# Altium schematic symbol library SolarV1.SCHLIB: 65 symbols
Pins are listed as number, name and electrical type; pins without a type are passive.

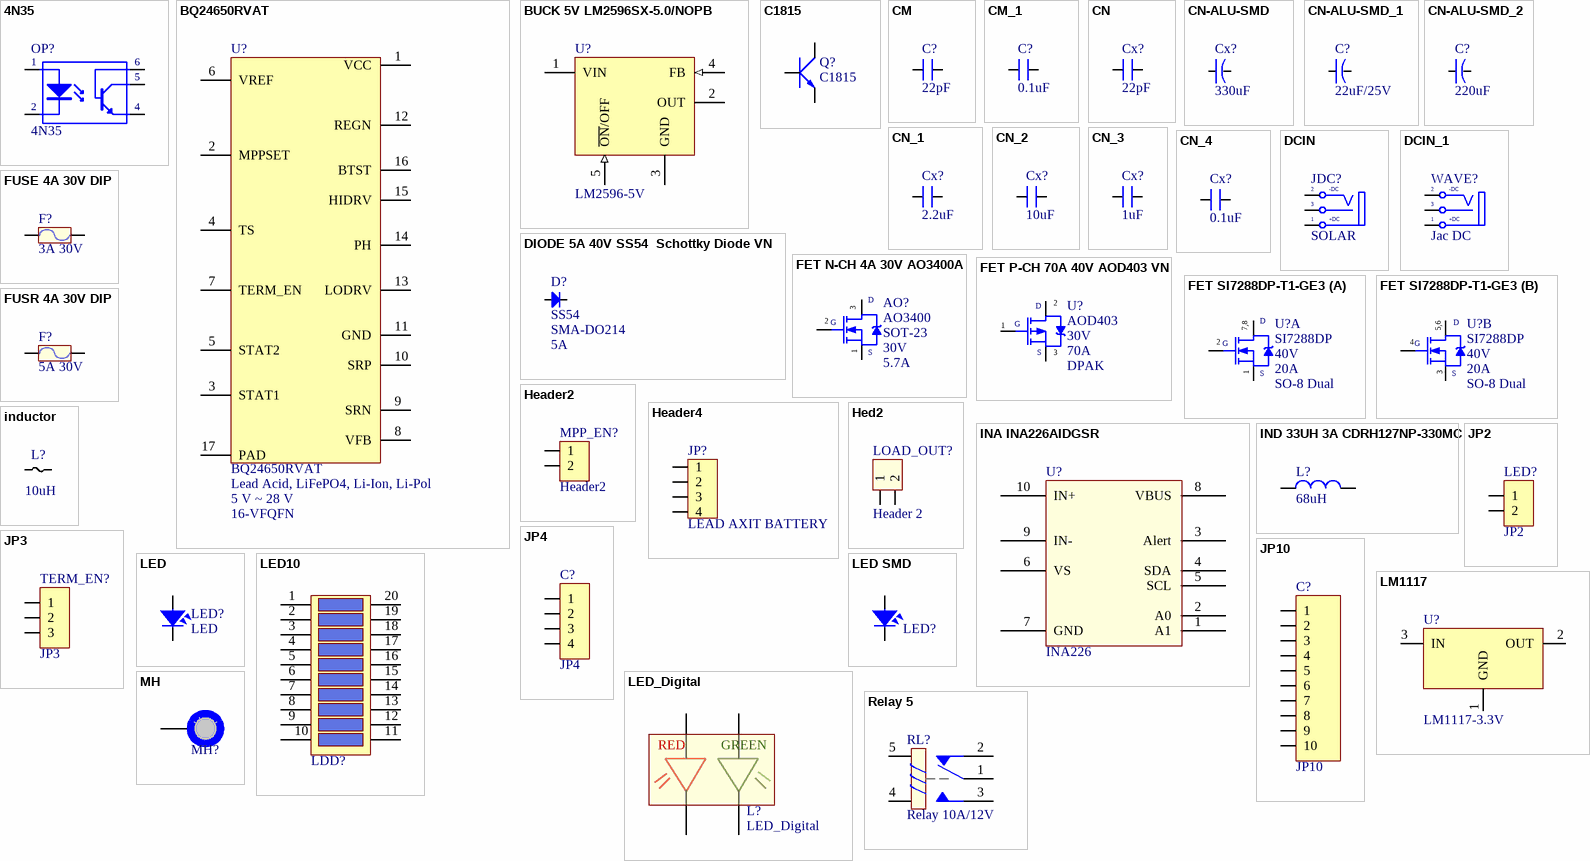
[diagram p0: symbols 4N35 to Relay 5]

## 4N35
designator OP?
Opto; Value: 4N35
footprint DIP6
footprint SO6
pins: 1 A "Anode", 2 K "Cathode", 4 E "Emitter", 5 C "Collector", 6 C "Collector"

## BQ24650RVAT
designator U?  Battery Chemistry: Lead Acid, LiFePO4, Li-Ion, Li-Pol  Voltage - Supply: 5 V ~ 28 V  Package / Case: 16-VFQFN
TEXAS INSTRUMENTS         BQ24650RVAT            IC, BATT CHARGER, LI-ION, 10A, VQFN-16; Product Training Modules: Power Management for Energy Harvesting; Featured Product: bq24650 Battery Charge Controller for Solar Power; Reference Design Library: BQ24650EVM-639: 5 ~ 28V, 8 A Solar Charger; Function: Charge Management, Solar; Dynamic Catalog: Charge Management, Specialized; For Use With: 296-28320-ND / - EVAL MODULE FOR BQ24650; Other Names: 296-27699-6; Supplier 1: Mouser; Manufacturer: Texas Instruments; Manufacturer Part Number: BQ24650RVAT; Stock 1: 1648; Pricing 1: 1=5.36, 10=4.82, 50=4.82, 100=3.94, 1000=2.83, 10000=2.69 (USD); Standard Package: 1; Category: Integrated Circuits (ICs); Family: PMIC - Battery Management; Series: -; Operating Temperature: -40°C ~ 85°C; Mounting Type: Surface Mount; Supplier Device Package: 16-VQFN Exposed Pad (3.5x3.5); Packaging: Digi-Reel®; ComponentLink1URL: http://www.ti.com/general/docs/lit/getliterature.tsp?genericPartNumber=BQ24650&amp;&amp;fileType=pdf&src-supplier=Avnet; ComponentLink1Description: http://www.ti.com/general/docs/lit/getliterature.tsp?genericPartNumber=BQ24650&amp;&amp;fileType=pdf&src-supplier=Avnet; ComponentLink2URL: http://www.ti.com/general/docs/lit/getliterature.tsp?genericPartNumber=BQ24650&amp;&amp;fileType=pdf&src-supplier=Verical; ComponentLink2Description: http://www.ti.com/general/docs/lit/getliterature.tsp?genericPartNumber=BQ24650&amp;&amp;fileType=pdf&src-supplier=Verical; ComponentLink3URL: http://www.ti.com/general/docs/lit/getliterature.tsp?genericPartNumber=BQ24650&amp;&amp;fileType=pdf&src-supplier=Farnell; ComponentLink3Description: http://www.ti.com/general/docs/lit/getliterature.tsp?genericPartNumber=BQ24650&amp;&amp;fileType=pdf&src-supplier=Farnell; ComponentLink4URL: http://www.ti.com/general/docs/lit/getliterature.tsp?genericPartNumber=BQ24650&amp;&amp;fileType=pdf&src-supplier=Mouser; ComponentLink4Description: http://www.ti.com/general/docs/lit/getliterature.tsp?genericPartNumber=BQ24650&amp;&amp;fileType=pdf&src-supplier=Mouser; ComponentLink5URL: http://www.ti.com/general/docs/lit/getliterature.tsp?genericPartNumber=BQ24650&&fileType=pdf&src-supplier=Element14; ComponentLink5Description: http://www.ti.com/general/docs/lit/getliterature.tsp?genericPartNumber=BQ24650&&fileType=pdf&src-supplier=Element14; ComponentLink6URL: http://www.farnell.com/datasheets/1795899.pdf?src-supplier=Element14; ComponentLink6Description: http://www.farnell.com/datasheets/1795899.pdf?src-supplier=Element14; ComponentLink7URL: http://www.ti.com/lit/ds/symlink/bq24650.pdf?src-supplier=Digi-Key; ComponentLink7Description: http://www.ti.com/lit/ds/symlink/bq24650.pdf?src-supplier=Digi-Key; ComponentLink8URL: http://www.ti.com/general/docs/lit/getliterature.tsp?genericPartNumber=BQ24650&amp;&amp;fileType=pdf&src-supplier=Avnet+Europe; ComponentLink8Description: http://www.ti.com/general/docs/lit/getliterature.tsp?genericPartNumber=BQ24650&amp;&amp;fileType=pdf&src-supplier=Avnet+Europe; ComponentLink9URL: http://www.produktinfo.conrad.com/datenblaetter/1000000-1099999/001013519-da-01-en-IC_SYNC_SW_MODE_BQ24650RVAT_VQFN_16_TID.pdf?src-supplier=Conrad; ComponentLink9Description: http://www.produktinfo.conrad.com/datenblaetter/1000000-1099999/001013519-da-01-en-IC_SYNC_SW_MODE_BQ24650RVAT_VQFN_16_TID.pdf?src-supplier=Conrad; Supplier Part Number 1: 595-BQ24650RVAT
footprint VFQFN-16-EP
pins: 1 VCC, 2 MPPSET, 3 STAT1, 4 TS, 5 STAT2, 6 VREF, 7 TERM_EN, 8 VFB, 9 SRN, 10 SRP, 11 GND, 12 REGN, 13 LODRV, 14 PH, 15 HIDRV, 16 BTST, 17 PAD

## BUCK 5V LM2596SX-5.0/NOPB
designator U?, comment LM2596-5V
IC REG BUCK 5V 3A TO263-5; Manufacturer: Texas Instruments; Manufacturer Part Number: LM2596SX-5.0/NOPB; Categories: Integrated Circuits (ICs); Function: Step-Down; Output Configuration: Positive; Output Type: Fixed; Number of Outputs: 1; Voltage - Input (Min): 4.5V; Voltage - Input (Max): 40V; Frequency - Switching: 150kHz; Synchronous Rectifier: No; Supplier 1: Newark; Stock 1: 1924; Pricing 1: 1=4.77, 10=4.28, 25=4.02, 50=3.77, 100=3.51, 250=3.29 (USD); Series: SIMPLE SWITCHER®; Packaging: Digi-Reel®; Part Status: Active; Topology: Buck; Voltage - Output (Min/Fixed): 5V; Voltage - Output (Max): -; Current - Output: 3A; Operating Temperature: -40°C ~ 125°C (TJ); Mounting Type: Surface Mount; Package / Case: TO-263-6, D²Pak (5 Leads + Tab), TO-263BA; Supplier Device Package: DDPAK/TO-263-5; Base Part Number: LM2596; Supplier Part Number 1: 28AH3161
footprint TO263
pins: 1 VIN (power), 2 OUT (power), 3 GND (power), 4 FB (in), 5 ~{ON}/OFF (in)

## C1815
designator Q?
NPN 600mW, ECB; Value: C1815
footprint QTO-92 (TO-92)
footprint SOT23B (SOT 23B)
pins: 1 E, 2 C, 3 B

## CM
designator C?, comment 22pF
Cap Ceramic 22pF 50V C0G 10% Pad SMD 0805 125°C T/R; Value: 103
footprint SM-0805 (Compoment SMD 80x50mil)
footprint SM-1206 (Compoment SMD 120x60mil)
pins: 1, 2

## CM_1
designator C?, comment 0.1uF
Cap SMD; Value: 103
footprint SM-0805 (Compoment SMD 80x50mil)
footprint SM-1206 (Compoment SMD 120x60mil)
pins: 1, 2

## CN
designator Cx?, comment 22pF
Value: 33pF
footprint CN1.5
footprint CN1
footprint CN2.5 (Tu pin to pin 250mil)
footprint CN3 (Cap np W 0.3)
footprint CN-SMD-0603
footprint CN-SMD-0805
footprint CN-SMD-0402
footprint CN-SMD-1206
footprint CN-SMD-2520 (TOKO INDUCTOR DFE252012 SERIES)
footprint CN-SMD-3225 (Chip Capacitor, Body 3.2x2.5mm, IPC Medium Density)
footprint CN2-T
footprint CN2-G
footprint CN0.8
footprint CN1-TA
footprint CN2-B
footprint CN2-LT
footprint CN2-O
footprint CN2-R
footprint CN2.5-BR (Tu pin to pin 250mil)
footprint CN2.5-R (Tu pin to pin 250mil)
footprint CN2.5-RV (Tu pin to pin 250mil)
footprint CN3.5 (Cap np W 0.3)
footprint CN4
footprint CN7 (Cap np W 0.3)
footprint CN3-B (Cap np W 0.3)
footprint CN7-B (Cap np W 0.3)
footprint CN7-N (Cap np W 0.3)
footprint CN7-Y (Cap np W 0.3)
footprint CN15 (Cap np W 0.3)
pins: 1, 2

## CN-ALU-SMD
designator Cx?, comment 330uF
Polarized Capacitor (Axial); Published: 8-Jun-2000; LatestRevisionDate: 17-Jul-2002; LatestRevisionNote: Re-released for DXP Platform.; PackageReference: POLAR0.8; Publisher: Altium Limited
footprint CAP-ALU-SMD-4.5x5x1.4
footprint CAP-ALU-SMD-5x5.5x1.4
footprint CAP-ALU-SMD-5.5x5.5
footprint CAP-ALU-SMD-6.3x7.7x2.2
footprint CAP-ALU-SMD-C
footprint CAP-ALU-SMD-D
footprint CAP-ALU-SMD-F
footprint CAP-ALU-SMD-G
footprint CAP-ALU-SMD-H
footprint CAP-ALU-SMD-J
footprint CAP-ALU-SMD-K
footprint CAP SMD ALU SIZE F (8.3 X 8.3 X 10.2mm)
pins: 1, 2
1 alternate drawing of the same symbol

## CN-ALU-SMD_1
designator C?, comment 22uF/25V
Polarized Capacitor (Axial); Published: 8-Jun-2000; LatestRevisionDate: 17-Jul-2002; LatestRevisionNote: Re-released for DXP Platform.; PackageReference: POLAR0.8; Publisher: Altium Limited
footprint CAP-ALU-SMD-4.5x5x1.4
footprint CAP-ALU-SMD-5x5.5x1.4
footprint CAP-ALU-SMD-5.5x5.5
footprint CAP-ALU-SMD-6.3x7.7x2.2
footprint CAP-ALU-SMD-C
footprint CAP-ALU-SMD-D
footprint CAP-ALU-SMD-F
footprint CAP-ALU-SMD-G
footprint CAP-ALU-SMD-H
footprint CAP-ALU-SMD-J
footprint CAP-ALU-SMD-K
pins: 1, 2
1 alternate drawing of the same symbol

## CN-ALU-SMD_2
designator C?, comment 220uF
Polarized Capacitor (Axial); Published: 8-Jun-2000; LatestRevisionDate: 17-Jul-2002; LatestRevisionNote: Re-released for DXP Platform.; PackageReference: POLAR0.8; Publisher: Altium Limited
footprint CAP-ALU-SMD-4.5x5x1.4
footprint CAP-ALU-SMD-5x5.5x1.4
footprint CAP-ALU-SMD-5.5x5.5
footprint CAP-ALU-SMD-6.3x7.7x2.2
footprint CAP-ALU-SMD-C
footprint CAP-ALU-SMD-D
footprint CAP-ALU-SMD-F
footprint CAP-ALU-SMD-G
footprint CAP-ALU-SMD-H
footprint CAP-ALU-SMD-J
footprint CAP-ALU-SMD-K
footprint CAP SMD ALU SIZE F (8.3 X 8.3 X 10.2mm)
pins: 1, 2
1 alternate drawing of the same symbol

## CN_1
designator Cx?, comment 2.2uF
Value: 33pF
footprint CN1.5
footprint CN1
footprint CN2.5 (Tu pin to pin 250mil)
footprint CN3 (Cap np W 0.3)
footprint CN-SMD-0603
footprint CN-SMD-0805
footprint CN-SMD-0402
footprint CN-SMD-1206
footprint CN-SMD-2520 (TOKO INDUCTOR DFE252012 SERIES)
footprint CN-SMD-3225 (Chip Capacitor, Body 3.2x2.5mm, IPC Medium Density)
footprint CN2-T
footprint CN2-G
footprint CN0.8
footprint CN1-TA
footprint CN2-B
footprint CN2-LT
footprint CN2-O
footprint CN2-R
footprint CN2.5-BR (Tu pin to pin 250mil)
footprint CN2.5-R (Tu pin to pin 250mil)
footprint CN2.5-RV (Tu pin to pin 250mil)
footprint CN3.5 (Cap np W 0.3)
footprint CN4
footprint CN7 (Cap np W 0.3)
footprint CN3-B (Cap np W 0.3)
footprint CN7-B (Cap np W 0.3)
footprint CN7-N (Cap np W 0.3)
footprint CN7-Y (Cap np W 0.3)
footprint CN15 (Cap np W 0.3)
pins: 1, 2

## CN_2
designator Cx?, comment 10uF
Value: 33pF
footprint CN1.5
footprint CN1
footprint CN2.5 (Tu pin to pin 250mil)
footprint CN3 (Cap np W 0.3)
footprint CN-SMD-0603
footprint CN-SMD-0805
footprint CN-SMD-0402
footprint CN-SMD-1206
footprint CN-SMD-2520 (TOKO INDUCTOR DFE252012 SERIES)
footprint CN-SMD-3225 (Chip Capacitor, Body 3.2x2.5mm, IPC Medium Density)
footprint CN2-T
footprint CN2-G
footprint CN0.8
footprint CN1-TA
footprint CN2-B
footprint CN2-LT
footprint CN2-O
footprint CN2-R
footprint CN2.5-BR (Tu pin to pin 250mil)
footprint CN2.5-R (Tu pin to pin 250mil)
footprint CN2.5-RV (Tu pin to pin 250mil)
footprint CN3.5 (Cap np W 0.3)
footprint CN4
footprint CN7 (Cap np W 0.3)
footprint CN3-B (Cap np W 0.3)
footprint CN7-B (Cap np W 0.3)
footprint CN7-N (Cap np W 0.3)
footprint CN7-Y (Cap np W 0.3)
footprint CN15 (Cap np W 0.3)
pins: 1, 2

## CN_3
designator Cx?, comment 1uF
Value: 33pF
footprint CN1.5
footprint CN1
footprint CN2.5 (Tu pin to pin 250mil)
footprint CN3 (Cap np W 0.3)
footprint CN-SMD-0603
footprint CN-SMD-0805
footprint CN-SMD-0402
footprint CN-SMD-1206
footprint CN-SMD-2520 (TOKO INDUCTOR DFE252012 SERIES)
footprint CN-SMD-3225 (Chip Capacitor, Body 3.2x2.5mm, IPC Medium Density)
footprint CN2-T
footprint CN2-G
footprint CN0.8
footprint CN1-TA
footprint CN2-B
footprint CN2-LT
footprint CN2-O
footprint CN2-R
footprint CN2.5-BR (Tu pin to pin 250mil)
footprint CN2.5-R (Tu pin to pin 250mil)
footprint CN2.5-RV (Tu pin to pin 250mil)
footprint CN3.5 (Cap np W 0.3)
footprint CN4
footprint CN7 (Cap np W 0.3)
footprint CN3-B (Cap np W 0.3)
footprint CN7-B (Cap np W 0.3)
footprint CN7-N (Cap np W 0.3)
footprint CN7-Y (Cap np W 0.3)
footprint CN15 (Cap np W 0.3)
pins: 1, 2

## CN_4
designator Cx?, comment 0.1uF
Value: 33pF
footprint CN1.5
footprint CN1
footprint CN2.5 (Tu pin to pin 250mil)
footprint CN3 (Cap np W 0.3)
footprint CN-SMD-0603
footprint CN-SMD-0805
footprint CN-SMD-0402
footprint CN-SMD-1206
footprint CN-SMD-2520 (TOKO INDUCTOR DFE252012 SERIES)
footprint CN-SMD-3225 (Chip Capacitor, Body 3.2x2.5mm, IPC Medium Density)
footprint CN2-T
footprint CN2-G
footprint CN0.8
footprint CN1-TA
footprint CN2-B
footprint CN2-LT
footprint CN2-O
footprint CN2-R
footprint CN2.5-BR (Tu pin to pin 250mil)
footprint CN2.5-R (Tu pin to pin 250mil)
footprint CN2.5-RV (Tu pin to pin 250mil)
footprint CN3.5 (Cap np W 0.3)
footprint CN4
footprint CN7 (Cap np W 0.3)
footprint CN3-B (Cap np W 0.3)
footprint CN7-B (Cap np W 0.3)
footprint CN7-N (Cap np W 0.3)
footprint CN7-Y (Cap np W 0.3)
footprint CN15 (Cap np W 0.3)
pins: 1, 2

## DCIN
designator JDC?, comment SOLAR
Jac DC input; Value: Jac DC
footprint DC0 (Jac DC input)
footprint DC1 (WR-DC_DC Power Jack_Right Angled_THT Center Pin ?0.65_Plug ID ?0.75_Plug OD ?2.35_with Peg)
footprint DC2 (WR-DC_DC Power Jack_Vertical_THT WR-DC_DC Power Jack_Vertical_THT)
footprint DC3 (WR-DC_DC Power Jack_Vertical_THT Center Pin ?2.5_Plug ID ?2.55_Plug OD ?5.5)
footprint DC4 (WR-DC_DC Power Jack_Right Angled_THT Center Pin ?1.0_Plug ID ?1.05_Plug OD ?3.5_with Peg)
footprint DC5 (WR-DC_DC Power Jack_Right Angled_THT Center Pin ?1.3_Plug ID ?1.35_Plug OD ?3.5_with Peg)
pins: 1 T "Tip", 2 TN "Tip Normal (Break Contact)", 3 S (power) "Sleeve (Ground)"
text: -DC; +DC

## DCIN_1
designator WAVE?, comment Jac DC
Jac DC input; Value: Jac DC
footprint DC0 (Jac DC input)
footprint DC1 (WR-DC_DC Power Jack_Right Angled_THT Center Pin ?0.65_Plug ID ?0.75_Plug OD ?2.35_with Peg)
footprint DC2 (WR-DC_DC Power Jack_Vertical_THT WR-DC_DC Power Jack_Vertical_THT)
footprint DC3 (WR-DC_DC Power Jack_Vertical_THT Center Pin ?2.5_Plug ID ?2.55_Plug OD ?5.5)
footprint DC4 (WR-DC_DC Power Jack_Right Angled_THT Center Pin ?1.0_Plug ID ?1.05_Plug OD ?3.5_with Peg)
footprint DC5 (WR-DC_DC Power Jack_Right Angled_THT Center Pin ?1.3_Plug ID ?1.35_Plug OD ?3.5_with Peg)
pins: 1 T "Tip", 2 TN "Tip Normal (Break Contact)", 3 S (power) "Sleeve (Ground)"
text: -DC; +DC

## DIODE 5A 40V SS54  Schottky Diode VN
designator D?, comment SS54  Package: SMA-DO214  Current: 5A
SS54 SMA/DO-124AC 5A 40V Schottky Barrier (1N5824) VN
footprint SMA (DO-214AC) (Molded Diode, 2-Leads, Body 5.3x2.8mm, IPC Medium Density)
pins: 1 A, 2 K

## FET N-CH 4A 30V AO3400A
designator AO?, comment AO3400  Package Type: SOT-23  Drain-Source On-Volt: 30V  Continuous Drain Current: 5.7A
MOSFET N-CH 30V 5.7A SOT23; Manufacturer: Alpha & Omega Semiconductor; Manufacturer Part Number: AO3400A; Number of  Elements: 1; Polarity: N; Channel Mode: Enhancement; Drain-Source On-Res: 0.0265Ohm; Gate-Source Voltage (Max): ±12V; Power Dissipation: 1.4W; Supplier 1: LCSC; Stock 1: 497680; Pricing 1: 5=0.1102, 50=0.0812, 150=0.0759, 500=0.0706, 2500=0.0682, 5000=0.0671, 5=0.0989, 50=0.0729, 150=0.0681, 500=0.0633, 2500=0.0612, 5000=0.0602, 5=0.5285, 50=0.3893, 150=0.3638, 500=0.3384, 2500=0.3271, 5000=0.3215, 5=0.5065, 50=0.3731, 150=0.3487, 500=0.3244, 2500=0.3135, 5000=0.3081, 5=0.0678, 50=0.05, 150=0.0467, 500=0.0434, 2500=0.042, 5000=0.0413, 5=0.0593, 50=0.0437, 150=0.0408, 500=0.038, 2500=0.0367, 5000=0.0361, 5=0.5868, 50=0.4323, 150=0.404, 500=0.3758, 2500=0.3632, 5000=0.357, 5=8.1047, 50=5.9701, 150=5.5801, 500=5.19, 2500=5.0167, 5000=4.93, 5=0.3132, 50=0.2307, 150=0.2156, 500=0.2005, 2500=0.1938, 5000=0.1905, 5=4.8106, 50=3.5436, 150=3.3121, 500=3.0806, 2500=2.9777, 5000=2.9262, 5=0.7344, 50=0.541, 150=0.5056, 500=0.4703, 2500=0.4546, 5000=0.4467, 5=0.1024, 50=0.0754, 150=0.0705, 500=0.0656, 2500=0.0634, 5000=0.0623, 5=0.0748, 50=0.0551, 150=0.0515, 500=0.0479, 2500=0.0463, 5000=0.0455 (AUD); Type: Power MOSFET; Operating Temp Range: -55C to 150C; Operating Temperature Classification: Military; Mounting: Surface Mount; Pin Count: 3; ComponentLink1URL: http://aosmd.com/res/packaging_information/SOT-23-3L.pdf?src-supplier=Digi-Key; ComponentLink1Description: http://aosmd.com/res/packaging_information/SOT-23-3L.pdf?src-supplier=Digi-Key; ComponentLink2URL: https://www.verical.com/server-webapp/html/getDatasheet?partID=64438&src-supplier=Verical; ComponentLink2Description: https://www.verical.com/server-webapp/html/getDatasheet?partID=64438&src-supplier=Verical; Supplier Part Number 1: C20917
footprint SOT23-231
pins: 1 S, 2 G, 3 D

## FET P-CH 70A 40V AOD403 VN
designator U?, comment AOD403  Drain-Source On-Volt: 30V  Continuous Drain Current: 70A  Package Type: DPAK
Trans MOSFET P-CH 30V 70A 3-Pin(2+Tab) DPAK VN; Manufacturer: Alpha & Omega Semiconductor; Number of  Elements: 1; Polarity: P; Channel Mode: Enhancement; Gate-Source Voltage (Max): ±25V; Power Dissipation: 90W; Supplier 1: Verical; Manufacturer Part Number: AOD403; Stock 1: 160042; Pricing 1: 2500=0.3969, 5000=0.378, 26=0.805 (USD); Type: Power MOSFET; Operating Temp Range: -55C to 175C; Operating Temperature Classification: Military; Mounting: Surface Mount; Pin Count: 2 +Tab; ComponentLink1URL: http://www.aosmd.com/res/packaging_information/TO252.pdf?src-supplier=Digi-Key; ComponentLink1Description: http://www.aosmd.com/res/packaging_information/TO252.pdf?src-supplier=Digi-Key; ComponentLink2URL: https://www.verical.com/server-webapp/html/getDatasheet?partID=313226&src-supplier=Verical; ComponentLink2Description: https://www.verical.com/server-webapp/html/getDatasheet?partID=313226&src-supplier=Verical; Supplier Part Number 1: AOD403
footprint TO-252 DPAK
pins: 1 G, 2 D, 3 S

## FET SI7288DP-T1-GE3
designator U?, comment SI7288DP  Drain to Source Voltage (Vdss): 40V  Current - Continuous Drain (Id) @ 25°C: 20A  Package / Case: SO-8 Dual
MOSFET 2N-CH 40V 20A PPAK SO-8; Manufacturer: Vishay Siliconix; Manufacturer Part Number: SI7288DP-T1-GE3; PCN Assembly/Origin: Multiple Fabracation Changes09/Jul/2014; FET Type: 2 N-Channel (Dual); FET Feature: Standard; Rds On (Max) @ Id, Vgs: 19 mOhm @ 10A, 10V; Vgs(th) (Max) @ Id: 2.8V @ 250µA; Gate Charge (Qg) @ Vgs: 15nC @ 10V; Input Capacitance (Ciss) @ Vds: 565pF @ 20V; Power - Max: 15.6W; Online Catalog: N-Channel Standard FETs; Other Names: SI7288DP-T1-GE3DKR; Supplier 1: Mouser; Stock 1: 27404; Pricing 1: 1=1.39, 10=1.17, 50=1.17, 100=0.96, 1000=0.679, 10000=0.563 (USD); Standard Package: 1; Category: Discrete Semiconductor Products; Family: FETs - Arrays; Series: TrenchFET®; Packaging: Digi-Reel®; Mounting Type: Surface Mount; Supplier Device Package: PowerPAK® SO-8 Dual; ComponentLink1URL: http://www.vishay.com/docs/65366/si7288dp.pdf?src-supplier=Digi-Key; ComponentLink1Description: http://www.vishay.com/docs/65366/si7288dp.pdf?src-supplier=Digi-Key; ComponentLink2URL: http://www.mouser.com/ds/2/427/si7288dp-244449.pdf?src-supplier=Mouser; ComponentLink2Description: http://www.mouser.com/ds/2/427/si7288dp-244449.pdf?src-supplier=Mouser; ComponentLink3URL: http://www.vishay.com/docs/65366/si7288dp.pdf?src-supplier=Avnet; ComponentLink3Description: http://www.vishay.com/docs/65366/si7288dp.pdf?src-supplier=Avnet; ComponentLink4URL: http://www.vishay.com/docs/65366/si7288dp.pdf?src-supplier=Avnet+Europe; ComponentLink4Description: http://www.vishay.com/docs/65366/si7288dp.pdf?src-supplier=Avnet+Europe; ComponentLink5URL: http://www.vishay.com/docs/65366/si7288dp.pdf?src-supplier=Future+Electronics; ComponentLink5Description: http://www.vishay.com/docs/65366/si7288dp.pdf?src-supplier=Future+Electronics; Supplier Part Number 1: 781-SI7288DP-T1-GE3
footprint SO-8 PowerPAK
part A pins: 1 S, 2 G, 7 D, 8 D
part B pins: 3 S, 4 G, 5 D, 6 D
part A text: 7,8
part B text: 5,6

## FUSE 4A 30V DIP
designator F?, comment 3A 30V
footprint CN2-G
pins: 1, 2

## FUSR 4A 30V DIP
designator F?, comment 5A 30V
footprint CN4
pins: 1, 2

## Header2
designator MPP_EN?
Header IDC, 2 x 1 Pin Vertical 2.54mm Pitch (Non-Boxed, Male); Manufacturer: W¨¹rth Elektronik eiSos GmbH; partNo: 613002143121; ComponentLink1 Description: Manufacturer; ComponentLink2 Description: Datasheet; NoPins: 02; Created Date: 29 March 2013; ComponentLink1URL: http://www.we-online.com; ComponentLink2URL: http://katalog.we-online.de/em/datasheet/6130xx143121.pdf; Created by: Karrer Zheng
footprint JP2-D1T (2 pins, 1 row, straight, gold plating)
pins: 1, 2

## Header4
designator JP?, comment LEAD AXIT BATTERY
Header IDC, 4 x 1 Pin Vertical 2.54mm Pitch (Non-Boxed, Male); Manufacturer: W¨¹rth Elektronik eiSos GmbH; partNo: 613002143121; ComponentLink1 Description: Manufacturer; ComponentLink2 Description: Datasheet; NoPins: 02; Created Date: 29 March 2013; ComponentLink1URL: http://www.we-online.com; ComponentLink2URL: http://katalog.we-online.de/em/datasheet/6130xx143121.pdf; Created by: Karrer Zheng
footprint DOMINO 4 - H
pins: 1, 2, 3, 4

## Hed2
designator LOAD_OUT?, comment Header 2
Header 2 (Green); Value: Header 2
footprint HED2 (Header 2, 2 pin, hight 300mil, Pin to Pin 200, Colour Green)
footprint HED2T (Header 2, 2 pin, hight 300mil, Pin to Pin 200, Colour Green)
footprint HED2B (Header 2, 2 pin, hight 300mil, Pin to Pin 150, Colour White)
pins: 1, 2

## INA INA226AIDGSR
designator U?, comment INA226
IC MONITOR PWR/CURR BIDIR 10MSOP
footprint INA226 (VSSOP, 10-Leads, Body 3.00x3.00mm, Pitch 0.50mm, IPC Medium Density)
pins: 1 A1, 2 A0, 3 Alert, 4 SDA, 5 SCL, 6 VS, 7 GND, 8 VBUS, 9 IN-, 10 IN+

## IND 33UH 3A CDRH127NP-330MC
designator L?, comment 68uH
FIXED IND 33UH 3A 64.8 MOHM SMD; Manufacturer: Sumida; Manufacturer Part Number: CDRH127NP-330MC; Product Training Modules: Power Inductor Basics; Catalog Drawings: CDRH127 Series Front CDRH127 Series Side CDRH127 Series Bottom; Inductance: 33µH; Tolerance: ±20%; Shielding: Shielded; DC Resistance (DCR): 64.8 mOhm Max; Frequency - Test: 1kHz; Online Catalog: CDRH Series; Other Names: 308-1467-1; Supplier 1: Mouser; Stock 1: 1471; Pricing 1: 1=2.03, 10=1.53, 50=1.53, 100=1.4, 500=0.918, 1000=0.837, 2500=0.81, 5000=0.783, 10000=0.756, 25000=0.718 (USD); Standard Package: 1; Category: Inductors, Coils, Chokes; Family: Fixed Inductors; Series: CDRH127; Packaging: Cut Tape (CT); Type: -; Material - Core: -; Current Rating: 3A; Current - Saturation: -; Q @ Freq: -; Frequency - Self Resonant: -; Ratings: -; Operating Temperature: -40°C ~ 100°C; Mounting Type: Surface Mount; Package / Case: Nonstandard; Size / Dimension: 0.472" L x 0.472" W (12.00mm x 12.00mm); Height - Seated (Max): 0.315" (8.00mm); ComponentLink1URL: http://www.sumida.com/products/pdf/CDRH127.pdf?src-supplier=Avnet; ComponentLink1Description: http://www.sumida.com/products/pdf/CDRH127.pdf?src-supplier=Avnet; ComponentLink2URL: https://www.verical.com/server-webapp/html/getDatasheet?partID=353985&src-supplier=Verical; ComponentLink2Description: https://www.verical.com/server-webapp/html/getDatasheet?partID=353985&src-supplier=Verical; ComponentLink3URL: http://components.arrow.com/part/dataview/51004637S8883439N4456?src-supplier=Arrow; ComponentLink3Description: http://components.arrow.com/part/dataview/51004637S8883439N4456?src-supplier=Arrow; ComponentLink4URL: http://products.sumida.com/products/pdf/CDRH127.pdf?src-supplier=Digi-Key; ComponentLink4Description: http://products.sumida.com/products/pdf/CDRH127.pdf?src-supplier=Digi-Key; ComponentLink5URL: http://www.sumida.com/products/pdf/CDRH127,127LD.pdf?src-supplier=Future+Electronics; ComponentLink5Description: http://www.sumida.com/products/pdf/CDRH127,127LD.pdf?src-supplier=Future+Electronics; ComponentLink6URL: http://www.sumida.com/products/pdf/CDRH127.pdf?src-supplier=Mouser; ComponentLink6Description: http://www.sumida.com/products/pdf/CDRH127.pdf?src-supplier=Mouser; Supplier Part Number 1: 851-CDRH127NP-330MC
footprint INDUCTOR SMD 12x12X8.5mm (body 12 x 12 x 4.6)
pins: 1, 2

## inductor
designator L?, comment 10uH
CDRH104,104R
footprint CDRH104R (100 10µH ± 30% 35m (26m) 3.80A-4.4A)
pins: 1, 2

## JP2
designator LED?
WR-PHD 2.54 mm Angled Socket Header; Manufacturer: W¨¹rth Elektronik eiSos GmbH; partNo: 613002143121; ComponentLink1 Description: Manufacturer; ComponentLink2 Description: Datasheet; NoPins: 02; Created Date: 29 March 2013; ComponentLink1URL: http://www.we-online.com; ComponentLink2URL: http://katalog.we-online.de/em/datasheet/6130xx143121.pdf; Created by: Karrer Zheng
footprint JP2-C1T (2 row, straight, gold plating)
footprint JP2-CLOSED
footprint JP2-C1C (02p 1 row Right angle)
footprint JP2-D1C (2 pins, 1 row, right angled, gold plating)
footprint JP2-D1T (2 pins, 1 row, straight, gold plating)
pins: 1, 2

## JP3
designator TERM_EN?
WR-PHD 2.54 mm Angled Socket Header; Manufacturer: W¨¹rth Elektronik eiSos GmbH; partNo: 613003143121; ComponentLink1 Description: Manufacturer; ComponentLink2 Description: Datasheet; NoPins: 03; Created Date: 29 March 2013; ComponentLink1URL: http://www.we-online.com; ComponentLink2URL: http://katalog.we-online.de/em/datasheet/6130xx143121.pdf; Created by: Karrer Zheng
footprint JP3-C1T (3 row, straight, gold plating)
footprint JP3-D1C (3 pins, 1 row, right angled, gold plating)
footprint JP3-C1C (03p 1 row Right angle)
footprint JP3-D1T (3 pins, 1 row, straight, gold plating)
footprint JP3-CLOSED
pins: 1, 2, 3

## JP4
designator C?
WR-PHD 2.54 mm Angled Socket Header; Manufacturer: W¨¹rth Elektronik eiSos GmbH; partNo: 613004143121; ComponentLink1 Description: Manufacturer; ComponentLink2 Description: Datasheet; NoPins: 04; Created Date: 29 March 2013; ComponentLink1URL: http://www.we-online.com; ComponentLink2URL: http://katalog.we-online.de/em/datasheet/6130xx143121.pdf; Created by: Karrer Zheng
footprint JP4-C1T (4 row, straight, gold plating)
footprint JP4-D1C (4 pins, 1 row, right angled, gold plating)
footprint JP4-C1C (04p 1 row Right angle)
footprint JP4-D1C (4 pins, 1 row, right angled, gold plating)
pins: 1, 2, 3, 4

## JP10
designator C?
WR-PHD 2.54 mm Angled Socket Header; Manufacturer: W¨¹rth Elektronik eiSos GmbH; partNo: 613010143121; ComponentLink1 Description: Manufacturer; ComponentLink2 Description: Datasheet; NoPins: 10; System: Connector; Created Date: 29 March 2013; ComponentLink1URL: http://www.we-online.com; ComponentLink2URL: http://katalog.we-online.de/em/datasheet/6130xx143121.pdf; Created by: Karrer Zheng
footprint JP10-C1T (10 row, straight, gold plating)
footprint JP10-C1C (10p 1 row Right angle)
footprint JP10-D1T (10 pins, 1 row, straight, gold plating)
footprint JP10-D1C (10 pins, 1 row, right angled, gold plating)
pins: 1, 2, 3, 4, 5, 6, 7, 8, 9, 10

## LED
designator LED?
LED Single colour Green and Red; Value: LED 3 ly Single Colour
footprint LED-3 (LED 2 PIN, 3ly Only colour)
footprint LED-V (LED 2 PIN, Rectang Only colour)
footprint LED-O (LED 2 PIN,  Ovan Only colour)
footprint LED-5 GRe (LED 2 PIN, 5 ly , Only colour,pin to pin 100mil)
footprint LED-5TRED (LED 2 PIN, 5 ly , Only colour, pin to pin 110mil)
pins: 1, 2

## LED10
designator LDD?, comment LED DIP 8  (value not drawn)
LED10; Value: LED DIP 8
footprint LEDBAR-10-RED
pins: 1, 2, 3, 4, 5, 6, 7, 8, 9, 10, 11, 12, 13, 14, 15, 16, 17, 18, 19, 20

## LED SMD
designator LED?, comment LED  (value not drawn)
Value: LED 3 - 5 ly 2 Colour
footprint LED 3512
footprint LED-0805-Blue
footprint LED-0805-Green
footprint LED-0805-Orange
footprint LED-1206-Blue (Compoment SMD 120x60mil)
footprint LED-0805-Yellow
footprint LED-0805-Red
footprint LED-1206-Green
footprint LED-1206-Orange
footprint LED-1206-Red
footprint LED-1206-Yellow
footprint LED-BLUE 0805
footprint LED-GREEN-0805
footprint LED-ORANGE-0805
footprint LED-RED-0805
footprint LED-WHITE-0805
footprint LED-YELLOW-0805
pins: 1, 2

## LED_Digital
designator L?
DBL2
footprint LedDigital (DBL2-2R)
pins: 1, 2, 3, 4
text: RED; GREEN

## LM1117
designator U?, comment LM1117-3.3V
800mA Low-Dropout Linear Regulator; Creator: Nguyen Ba Bien; Website: http://group3i.net
footprint SOT223
footprint TO220H1 (TO-220 - 1-2-3)
footprint TO220-123 (TO-220 - 1-2-3)
footprint TO220H2 (TO-220 - 1-2-3)
footprint TO220NH (TO-220 - 1-2-3)
footprint TO220H3 (TO-220 1-2-3)
pins: 1 GND, 2 OUT, 3 IN

## MH
designator MH?, comment MH_7.4MMNC_3.2MMD  (value not drawn)
footprint MH_7.4MMD_3.2MMD
pins: 1

## Relay 5
designator RL?, comment Relay 10A/12V
Relay SPDT,10A - 12VDC 5 Pin; Value: Relay SPDT, 10A, 12V
footprint RELAY 5 (Reley DPDT, 8 pin, 1A, W400mil, L800mil,H 300mil)
pins: 1, 2, 3, 4, 5

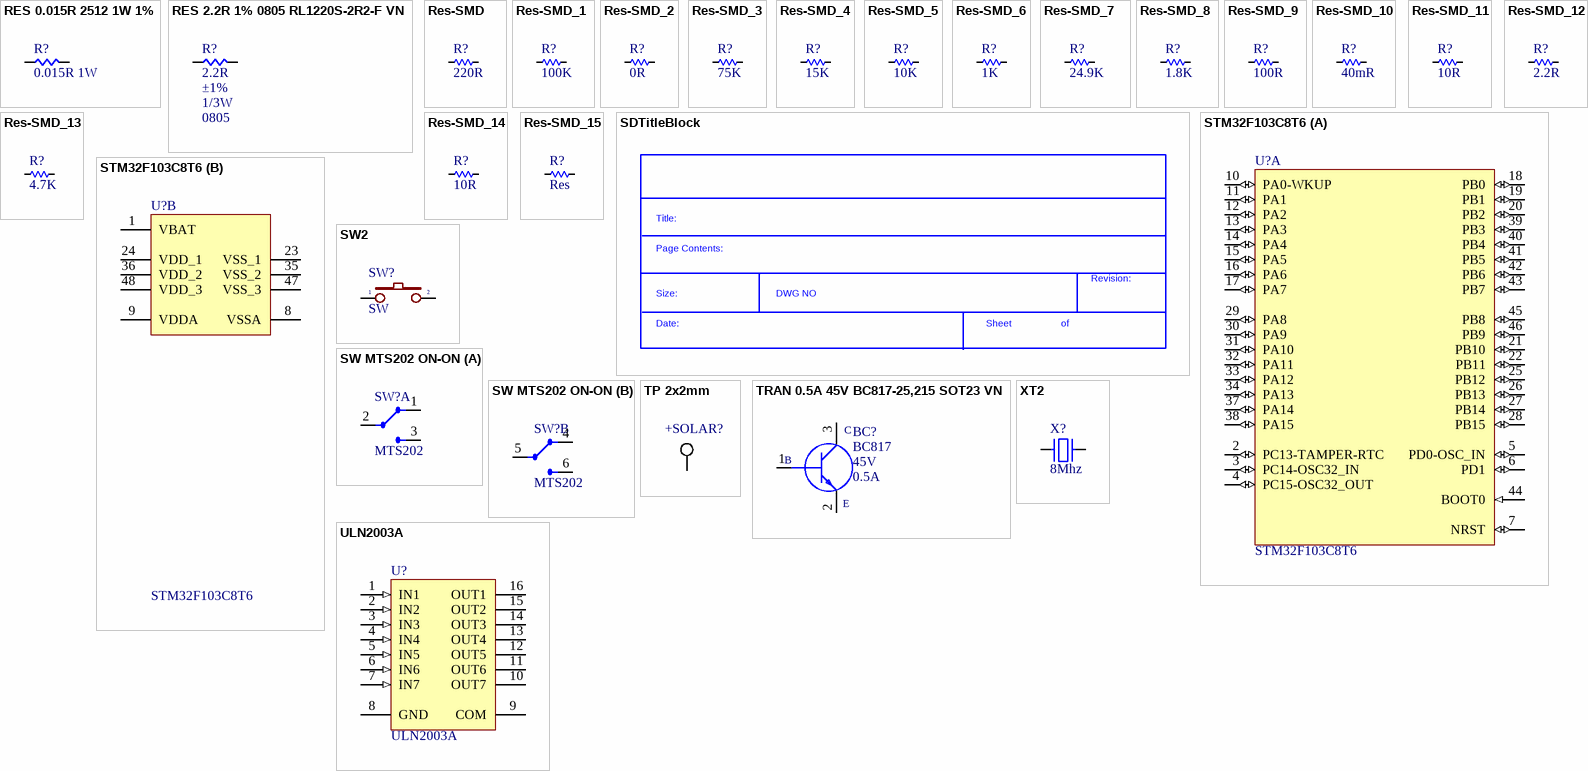
[diagram p1: symbols RES 0.015R 2512 1W 1% to XT2]

## RES 0.015R 2512 1W 1%
designator R?, comment 0.015R 1W
RES SMD 15 MOHM 1% 1W 2512; Manufacturer: Vishay Dale; Manufacturer Part Number: WSL2512R0150FEA; Resistance: 0.015ohm; Resistor Case Style: 2512 [6432 Metric]; Product Range: WSL Series; Resistor Element Type: Metal Strip; Temperature Coefficient: ± 75ppm/°C; Automotive Qualification Standard: AEC-Q200; SVHC: No SVHC (15-Jun-2015); Supplier 1: Mouser; Stock 1: 10348; Pricing 1: 1=1.16, 10=1.16, 25=0.973, 50=0.973, 100=0.842, 250=0.711, 500=0.599, 1000=0.5, 10000=0.5 (USD); Power Rating: 1W; Resistance Tolerance: ± 1%; Packaging: Cut Tape; MSL: MSL 1 - Unlimited; ComponentLink1URL: http://www.vishay.com/docs/30100/wsl.pdf?src-supplier=Digi-Key; ComponentLink1Description: http://www.vishay.com/docs/30100/wsl.pdf?src-supplier=Digi-Key; ComponentLink2URL: http://www.vishay.com/docs/30100/wsl.pdf?src-supplier=Future+Electronics; ComponentLink2Description: http://www.vishay.com/docs/30100/wsl.pdf?src-supplier=Future+Electronics; ComponentLink3URL: https://www.alliedelec.com/m/d/b482c23d27c9fba0eb82e9503f73d2f9.pdf?src-supplier=Allied+Electronics; ComponentLink3Description: https://www.alliedelec.com/m/d/b482c23d27c9fba0eb82e9503f73d2f9.pdf?src-supplier=Allied+Electronics; ComponentLink4URL: http://www.mouser.com/ds/2/427/wsl-101914.pdf?src-supplier=Mouser; ComponentLink4Description: http://www.mouser.com/ds/2/427/wsl-101914.pdf?src-supplier=Mouser; ComponentLink5URL: http://www.vishay.com/docs/30100/wsl.pdf?src-supplier=Farnell; ComponentLink5Description: http://www.vishay.com/docs/30100/wsl.pdf?src-supplier=Farnell; ComponentLink6URL: http://www.farnell.com/datasheets/2049120.pdf?src-supplier=Element14; ComponentLink6Description: http://www.farnell.com/datasheets/2049120.pdf?src-supplier=Element14; ComponentLink7URL: http://www.vishay.com/docs/30100/wsl.pdf?src-supplier=Avnet; ComponentLink7Description: http://www.vishay.com/docs/30100/wsl.pdf?src-supplier=Avnet; ComponentLink8URL: https://www.verical.com/server-webapp/html/getDatasheet?partID=117037&src-supplier=Verical; ComponentLink8Description: https://www.verical.com/server-webapp/html/getDatasheet?partID=117037&src-supplier=Verical; ComponentLink9URL: http://www.vishay.com/docs/30100/wsl.pdf?src-supplier=Avnet+Europe; ComponentLink9Description: http://www.vishay.com/docs/30100/wsl.pdf?src-supplier=Avnet+Europe; ComponentLink10URL: http://www.vishay.com/docs/30100/wsl.pdf?src-supplier=Element14; ComponentLink10Description: http://www.vishay.com/docs/30100/wsl.pdf?src-supplier=Element14; ComponentLink11URL: http://uk.rs-online.com/webdocs/0d81/0900766b80d81e3e.pdf?src-supplier=RSComponents; ComponentLink11Description: http://uk.rs-online.com/webdocs/0d81/0900766b80d81e3e.pdf?src-supplier=RSComponents; Supplier Part Number 1: 71-WSL2512R0150FEA
footprint RES-SMD-2512 (Chip Capacitor, Body 3.2x2.5mm, IPC Medium Density)
pins: 1, 2

## RES 2.2R 1% 0805 RL1220S-2R2-F VN
designator R?, comment 2.2R  Tolerance: ±1%  Power (Watts): 1/3W  Supplier Device Package: 0805
RES SMD 2.2 OHM 1% 1/3W 0805 VN; Manufacturer: Susumu; Manufacturer Part Number: RL1220S-2R2-F; Product Training Modules: RL Current Sense Resistors; Featured Product: RL Series - Low Resistance Current Sensors; EDA / CAD Models: Download from Accelerated Designs; Resistance (Ohms): 2.2; Temperature Coefficient: 0/ +200ppm/°C; Online Catalog: RL Series; Kits: RL1220SF-1-KIT-ND  - RESISTOR KIT 0.1-10 1/3W 480PCS; Other Names: RL12S2.20FCT; Supplier 1: Mouser; Stock 1: 7219; Pricing 1: 1=0.39, 10=0.24, 50=0.24, 100=0.133, 500=0.083, 1000=0.06, 2500=0.051, 5000=0.047, 10000=0.038, 25000=0.036 (USD); RoHS Information: Cert of RoHS Compliance; Standard Package: 1; Category: Resistors; Family: Chip Resistor - Surface Mount; Series: RL; Packaging: Cut Tape (CT); Composition: Thin Film; Features: Current Sense; Operating Temperature: -55°C ~ 125°C; Package / Case: 0805 (2012 Metric); Size / Dimension: 0.079" L x 0.049" W (2.00mm x 1.25mm); Height: 0.020" (0.50mm); Number of Terminations: 2; ComponentLink1URL: http://www.susumu-usa.com/pdf/Foot_Print_19.pdf?src-supplier=Digi-Key; ComponentLink1Description: http://www.susumu-usa.com/pdf/Foot_Print_19.pdf?src-supplier=Digi-Key; ComponentLink2URL: http://www.susumu.co.jp/common/pdf/n_catalog_partition08_en.pdf?src-supplier=Digi-Key; ComponentLink2Description: http://www.susumu.co.jp/common/pdf/n_catalog_partition08_en.pdf?src-supplier=Digi-Key; Supplier Part Number 1: 754-RL1220S-2R2-F
footprint RES-SMD-0805
pins: 1, 2

## Res-SMD
designator R?, comment 220R
Resistor; Manufacturer: Generic Components; Class: Passive; Published: 08/06/2000; Publisher: Altium Hobart Technology Centre
footprint RES-SMD-0101
footprint RES-SMD-0201
footprint RES-SMD-0603
footprint RES-SMD-0805
footprint RES-SMD-1206
footprint RES-SMD-1210 (Chip Capacitor, Body 3.2x2.5mm, IPC Medium Density)
footprint RES-SMD-1812 (Chip Capacitor, Body 3.2x2.5mm, IPC Medium Density)
footprint RES-SMD-2010 (Chip Capacitor, Body 3.2x2.5mm, IPC Medium Density)
footprint RES-SMD-2512 (Chip Capacitor, Body 3.2x2.5mm, IPC Medium Density)
footprint RES-SMD-0402
pins: 1, 2

## Res-SMD_1
designator R?, comment 100K
Resistor; Manufacturer: Generic Components; Class: Passive; Published: 08/06/2000; Publisher: Altium Hobart Technology Centre
footprint RES-SMD-0101
footprint RES-SMD-0201
footprint RES-SMD-0603
footprint RES-SMD-0805
footprint RES-SMD-1206
footprint RES-SMD-1210 (Chip Capacitor, Body 3.2x2.5mm, IPC Medium Density)
footprint RES-SMD-1812 (Chip Capacitor, Body 3.2x2.5mm, IPC Medium Density)
footprint RES-SMD-2010 (Chip Capacitor, Body 3.2x2.5mm, IPC Medium Density)
footprint RES-SMD-2512 (Chip Capacitor, Body 3.2x2.5mm, IPC Medium Density)
footprint RES-SMD-0402
pins: 1, 2

## Res-SMD_2
designator R?, comment 0R
Resistor; Manufacturer: Generic Components; Class: Passive; Published: 08/06/2000; Publisher: Altium Hobart Technology Centre
footprint RES-SMD-0101
footprint RES-SMD-0201
footprint RES-SMD-0603
footprint RES-SMD-0805
footprint RES-SMD-1206
footprint RES-SMD-1210 (Chip Capacitor, Body 3.2x2.5mm, IPC Medium Density)
footprint RES-SMD-1812 (Chip Capacitor, Body 3.2x2.5mm, IPC Medium Density)
footprint RES-SMD-2010 (Chip Capacitor, Body 3.2x2.5mm, IPC Medium Density)
footprint RES-SMD-2512 (Chip Capacitor, Body 3.2x2.5mm, IPC Medium Density)
footprint RES-SMD-0402
pins: 1, 2

## Res-SMD_3
designator R?, comment 75K
Resistor; Manufacturer: Generic Components; Class: Passive; Published: 08/06/2000; Publisher: Altium Hobart Technology Centre
footprint RES-SMD-0101
footprint RES-SMD-0201
footprint RES-SMD-0603
footprint RES-SMD-0805
footprint RES-SMD-1206
footprint RES-SMD-1210 (Chip Capacitor, Body 3.2x2.5mm, IPC Medium Density)
footprint RES-SMD-1812 (Chip Capacitor, Body 3.2x2.5mm, IPC Medium Density)
footprint RES-SMD-2010 (Chip Capacitor, Body 3.2x2.5mm, IPC Medium Density)
footprint RES-SMD-2512 (Chip Capacitor, Body 3.2x2.5mm, IPC Medium Density)
footprint RES-SMD-0402
pins: 1, 2

## Res-SMD_4
designator R?, comment 15K
Resistor; Manufacturer: Generic Components; Class: Passive; Published: 08/06/2000; Publisher: Altium Hobart Technology Centre
footprint RES-SMD-0101
footprint RES-SMD-0201
footprint RES-SMD-0603
footprint RES-SMD-0805
footprint RES-SMD-1206
footprint RES-SMD-1210 (Chip Capacitor, Body 3.2x2.5mm, IPC Medium Density)
footprint RES-SMD-1812 (Chip Capacitor, Body 3.2x2.5mm, IPC Medium Density)
footprint RES-SMD-2010 (Chip Capacitor, Body 3.2x2.5mm, IPC Medium Density)
footprint RES-SMD-2512 (Chip Capacitor, Body 3.2x2.5mm, IPC Medium Density)
footprint RES-SMD-0402
pins: 1, 2

## Res-SMD_5
designator R?, comment 10K
Resistor; Manufacturer: Generic Components; Class: Passive; Published: 08/06/2000; Publisher: Altium Hobart Technology Centre
footprint RES-SMD-0101
footprint RES-SMD-0201
footprint RES-SMD-0603
footprint RES-SMD-0805
footprint RES-SMD-1206
footprint RES-SMD-1210 (Chip Capacitor, Body 3.2x2.5mm, IPC Medium Density)
footprint RES-SMD-1812 (Chip Capacitor, Body 3.2x2.5mm, IPC Medium Density)
footprint RES-SMD-2010 (Chip Capacitor, Body 3.2x2.5mm, IPC Medium Density)
footprint RES-SMD-2512 (Chip Capacitor, Body 3.2x2.5mm, IPC Medium Density)
footprint RES-SMD-0402
pins: 1, 2

## Res-SMD_6
designator R?, comment 1K
Resistor; Manufacturer: Generic Components; Class: Passive; Published: 08/06/2000; Publisher: Altium Hobart Technology Centre
footprint RES-SMD-0101
footprint RES-SMD-0201
footprint RES-SMD-0603
footprint RES-SMD-0805
footprint RES-SMD-1206
footprint RES-SMD-1210 (Chip Capacitor, Body 3.2x2.5mm, IPC Medium Density)
footprint RES-SMD-1812 (Chip Capacitor, Body 3.2x2.5mm, IPC Medium Density)
footprint RES-SMD-2010 (Chip Capacitor, Body 3.2x2.5mm, IPC Medium Density)
footprint RES-SMD-2512 (Chip Capacitor, Body 3.2x2.5mm, IPC Medium Density)
footprint RES-SMD-0402
pins: 1, 2

## Res-SMD_7
designator R?, comment 24.9K
Resistor; Manufacturer: Generic Components; Class: Passive; Published: 08/06/2000; Publisher: Altium Hobart Technology Centre
footprint RES-SMD-0101
footprint RES-SMD-0201
footprint RES-SMD-0603
footprint RES-SMD-0805
footprint RES-SMD-1206
footprint RES-SMD-1210 (Chip Capacitor, Body 3.2x2.5mm, IPC Medium Density)
footprint RES-SMD-1812 (Chip Capacitor, Body 3.2x2.5mm, IPC Medium Density)
footprint RES-SMD-2010 (Chip Capacitor, Body 3.2x2.5mm, IPC Medium Density)
footprint RES-SMD-2512 (Chip Capacitor, Body 3.2x2.5mm, IPC Medium Density)
footprint RES-SMD-0402
pins: 1, 2

## Res-SMD_8
designator R?, comment 1.8K
Resistor; Manufacturer: Generic Components; Class: Passive; Published: 08/06/2000; Publisher: Altium Hobart Technology Centre
footprint RES-SMD-0101
footprint RES-SMD-0201
footprint RES-SMD-0603
footprint RES-SMD-0805
footprint RES-SMD-1206
footprint RES-SMD-1210 (Chip Capacitor, Body 3.2x2.5mm, IPC Medium Density)
footprint RES-SMD-1812 (Chip Capacitor, Body 3.2x2.5mm, IPC Medium Density)
footprint RES-SMD-2010 (Chip Capacitor, Body 3.2x2.5mm, IPC Medium Density)
footprint RES-SMD-2512 (Chip Capacitor, Body 3.2x2.5mm, IPC Medium Density)
footprint RES-SMD-0402
pins: 1, 2

## Res-SMD_9
designator R?, comment 100R
Resistor; Manufacturer: Generic Components; Class: Passive; Published: 08/06/2000; Publisher: Altium Hobart Technology Centre
footprint RES-SMD-0101
footprint RES-SMD-0201
footprint RES-SMD-0603
footprint RES-SMD-0805
footprint RES-SMD-1206
footprint RES-SMD-1210 (Chip Capacitor, Body 3.2x2.5mm, IPC Medium Density)
footprint RES-SMD-1812 (Chip Capacitor, Body 3.2x2.5mm, IPC Medium Density)
footprint RES-SMD-2010 (Chip Capacitor, Body 3.2x2.5mm, IPC Medium Density)
footprint RES-SMD-2512 (Chip Capacitor, Body 3.2x2.5mm, IPC Medium Density)
footprint RES-SMD-0402
pins: 1, 2

## Res-SMD_10
designator R?, comment 40mR
Resistor; Manufacturer: Generic Components; Class: Passive; Published: 08/06/2000; Publisher: Altium Hobart Technology Centre
footprint RES-SMD-0101
footprint RES-SMD-0201
footprint RES-SMD-0603
footprint RES-SMD-0805
footprint RES-SMD-1206
footprint RES-SMD-1210 (Chip Capacitor, Body 3.2x2.5mm, IPC Medium Density)
footprint RES-SMD-1812 (Chip Capacitor, Body 3.2x2.5mm, IPC Medium Density)
footprint RES-SMD-2010 (Chip Capacitor, Body 3.2x2.5mm, IPC Medium Density)
footprint RES-SMD-2512 (Chip Capacitor, Body 3.2x2.5mm, IPC Medium Density)
footprint RES-SMD-0402
pins: 1, 2

## Res-SMD_11
designator R?, comment 10R
0805; Manufacturer: Generic Components; Class: Passive; Published: 08/06/2000; Publisher: Altium Hobart Technology Centre
footprint RES-SMD-0101
footprint RES-SMD-0201
footprint RES-SMD-0603
footprint RES-SMD-0805
footprint RES-SMD-1206
footprint RES-SMD-1210 (Chip Capacitor, Body 3.2x2.5mm, IPC Medium Density)
footprint RES-SMD-1812 (Chip Capacitor, Body 3.2x2.5mm, IPC Medium Density)
footprint RES-SMD-2010 (Chip Capacitor, Body 3.2x2.5mm, IPC Medium Density)
footprint RES-SMD-2512 (Chip Capacitor, Body 3.2x2.5mm, IPC Medium Density)
footprint RES-SMD-0402
pins: 1, 2

## Res-SMD_12
designator R?, comment 2.2R
Resistor; Manufacturer: Generic Components; Class: Passive; Published: 08/06/2000; Publisher: Altium Hobart Technology Centre
footprint RES-SMD-0101
footprint RES-SMD-0201
footprint RES-SMD-0603
footprint RES-SMD-0805
footprint RES-SMD-1206
footprint RES-SMD-1210 (Chip Capacitor, Body 3.2x2.5mm, IPC Medium Density)
footprint RES-SMD-1812 (Chip Capacitor, Body 3.2x2.5mm, IPC Medium Density)
footprint RES-SMD-2010 (Chip Capacitor, Body 3.2x2.5mm, IPC Medium Density)
footprint RES-SMD-2512 (Chip Capacitor, Body 3.2x2.5mm, IPC Medium Density)
footprint RES-SMD-0402
pins: 1, 2

## Res-SMD_13
designator R?, comment 4.7K
Resistor; Manufacturer: Generic Components; Class: Passive; Published: 08/06/2000; Publisher: Altium Hobart Technology Centre
footprint RES-SMD-0101
footprint RES-SMD-0201
footprint RES-SMD-0603
footprint RES-SMD-0805
footprint RES-SMD-1206
footprint RES-SMD-1210 (Chip Capacitor, Body 3.2x2.5mm, IPC Medium Density)
footprint RES-SMD-1812 (Chip Capacitor, Body 3.2x2.5mm, IPC Medium Density)
footprint RES-SMD-2010 (Chip Capacitor, Body 3.2x2.5mm, IPC Medium Density)
footprint RES-SMD-2512 (Chip Capacitor, Body 3.2x2.5mm, IPC Medium Density)
footprint RES-SMD-0402
pins: 1, 2

## Res-SMD_14
designator R?, comment 10R
Resistor; Manufacturer: Generic Components; Class: Passive; Published: 08/06/2000; Publisher: Altium Hobart Technology Centre
footprint RES-SMD-0101
footprint RES-SMD-0201
footprint RES-SMD-0603
footprint RES-SMD-0805
footprint RES-SMD-1206
footprint RES-SMD-1210 (Chip Capacitor, Body 3.2x2.5mm, IPC Medium Density)
footprint RES-SMD-1812 (Chip Capacitor, Body 3.2x2.5mm, IPC Medium Density)
footprint RES-SMD-2010 (Chip Capacitor, Body 3.2x2.5mm, IPC Medium Density)
footprint RES-SMD-2512 (Chip Capacitor, Body 3.2x2.5mm, IPC Medium Density)
footprint RES-SMD-0402
pins: 1, 2

## Res-SMD_15
designator R?, comment Res
Resistor; Manufacturer: Generic Components; Class: Passive; Published: 08/06/2000; Publisher: Altium Hobart Technology Centre
footprint RES-SMD-0101
footprint RES-SMD-0201
footprint RES-SMD-0603
footprint RES-SMD-0805
footprint RES-SMD-1206
footprint RES-SMD-1210 (Chip Capacitor, Body 3.2x2.5mm, IPC Medium Density)
footprint RES-SMD-1812 (Chip Capacitor, Body 3.2x2.5mm, IPC Medium Density)
footprint RES-SMD-2010 (Chip Capacitor, Body 3.2x2.5mm, IPC Medium Density)
footprint RES-SMD-2512 (Chip Capacitor, Body 3.2x2.5mm, IPC Medium Density)
footprint RES-SMD-0402
pins: 1, 2

## SDTitleBlock
designator *??  (value not drawn)  (graphical)
text: Title:; Page Contents:; Revision:; Size:; DWG NO; Date:; Sheet; of

## STM32F103C8T6
designator U?
STM32 ARM-based 32-bit MCU Performance Line with 64 kB Flash, 20 kB Internal RAM, -40 to +85°C Temperature, 48-Pin LQFP, Tray; DatasheetVersion: rev13.0, Apr-2011; PackageVersion: rev13, Apr-2011; PackageReference: LQFP48; PackageDescription: 48-Pin Low-Profile Quad Flat Pack, 7 x 7 mm Body, 0.5 mm Pitch (LQFP48); ComponentLink1Description: Manufacturer URL; ComponentLink1URL: http://www.st.com/; ComponentLink2Description: STM32F103 Datasheet; ComponentLink2URL: http://www.st.com/internet/com/TECHNICAL_RESOURCES/TECHNICAL_LITERATURE/DATASHEET/CD00161566.pdf; ComponentLink3Description: STM32 Family Web Page; ComponentLink3URL: www.st.com/stm32
footprint LQFP48_N (Thin QFP, 48-Leads, Body 7x7mm, Pitch 0.5mm, IPC Medium Density)
footprint LQFP48_L (Thin QFP, 48-Leads, Body 7x7mm, Pitch 0.5mm, IPC High Density)
footprint LQFP48_M (Thin QFP, 48-Leads, Body 7x7mm, Pitch 0.5mm, IPC Low Density)
part A pins: 2 PC13-TAMPER-RTC (io), 3 PC14-OSC32_IN (io), 4 PC15-OSC32_OUT (io), 5 PD0-OSC_IN (io), 6 PD1 (io), 7 NRST (io), 10 PA0-WKUP (io), 11 PA1 (io), 12 PA2 (io), 13 PA3 (io), 14 PA4 (io), 15 PA5 (io), 16 PA6 (io), 17 PA7 (io), 18 PB0 (io), 19 PB1 (io), 20 PB2 (io), 21 PB10 (io), 22 PB11 (io), 25 PB12 (io), 26 PB13 (io), 27 PB14 (io), 28 PB15 (io), 29 PA8 (io), 30 PA9 (io), 31 PA10 (io), 32 PA11 (io), 33 PA12 (io), 34 PA13 (io), 37 PA14 (io), 38 PA15 (io), 39 PB3 (io), 40 PB4 (io), 41 PB5 (io), 42 PB6 (io), 43 PB7 (io), 44 BOOT0 (in), 45 PB8 (io), 46 PB9 (io)
part B pins: 1 VBAT (power), 8 VSSA (power), 9 VDDA (power), 23 VSS_1 (power), 24 VDD_1 (power), 35 VSS_2 (power), 36 VDD_2 (power), 47 VSS_3 (power), 48 VDD_3 (power)

## SW2
designator SW?, comment SW
Switch button 2 pin; Value: SW chip 2 pin
footprint SW1-SMD
footprint SW-DIP1
footprint SW-DIP1-1 (01p, 2.54mm Pitch, Horizontal, Box Type, THT, flat Actuator, red, without Tape, Tube)
footprint SW1-DIP
pins: 1, 2

## SW MTS202 ON-ON
designator SW?, comment MTS202
footprint MTS-20X
part A pins: 1, 2, 3 I/O2
part B pins: 4, 5, 6 I/O2

## TP 2x2mm
designator +SOLAR?  (value not drawn)
footprint TP 2x2mm
pins: 3

## TRAN 0.5A 45V BC817-25,215 SOT23 VN
designator BC?, comment BC817  Voltage: 45V  Current: 0.5A
BC817 Series 45 V 500 mA SMT NPN General Purpose Transistor - SOT-23 VN; Manufacturer: Nexperia; Manufacturer Part Number: BC817-25,215; Supplier 1: Rochester Electronics; Stock 1: 5904000; Pricing 1: 1=0.03, 25=0.03, 100=0.03, 500=0.03, 1000=0.03 (USD); ComponentLink1URL: http://www.farnell.com/datasheets/699988.pdf?src-supplier=Farnell; ComponentLink1Description: http://www.farnell.com/datasheets/699988.pdf?src-supplier=Farnell; ComponentLink2URL: http://www.farnell.com/datasheets/699988.pdf?src-supplier=Newark; ComponentLink2Description: http://www.farnell.com/datasheets/699988.pdf?src-supplier=Newark; ComponentLink3URL: https://www.mouser.com/ds/2/302/BC817_BC817W_BC337-188983.pdf?src-supplier=Mouser; ComponentLink3Description: https://www.mouser.com/ds/2/302/BC817_BC817W_BC337-188983.pdf?src-supplier=Mouser; ComponentLink4URL: https://assets.nexperia.com/documents/data-sheet/BC817_SER.pdf?src-supplier=Digi-Key; ComponentLink4Description: https://assets.nexperia.com/documents/data-sheet/BC817_SER.pdf?src-supplier=Digi-Key; Supplier Part Number 1: BC817-25,215
footprint SOT23-132
pins: 1 B, 2 E, 3 C

## ULN2003A
designator U?
High-Voltage, High-Current Darlington Array; Published: 13-Oct-2000; LatestRevisionDate: 06-Jun-2005; LatestRevisionNote: Stylized 3D Model Added.; DatasheetVersion: 1998; PackageVersion: 1998; PackageReference: A16; Publisher: Altium Limited; PackageDescription: DIP; 16 Leads; Row Spacing 7.62 mm; Pitch 2.54 mm; Code_JEDEC: MS-001-BB; ComponentLink1Description: Manufacturer Link; ComponentLink1URL: http://www.allegromicro.com/
footprint DIP16
footprint SO16 (SOIC, 16-Leads, Body 9.90x3.91mm, Pitch 1.27mm, IPC Medium Density)
pins: 1 IN1 (in), 2 IN2 (in), 3 IN3 (in), 4 IN4 (in), 5 IN5 (in), 6 IN6 (in), 7 IN7 (in), 8 GND (power), 9 COM, 10 OUT7 (oc), 11 OUT6 (oc), 12 OUT5 (oc), 13 OUT4 (oc), 14 OUT3 (oc), 15 OUT2 (oc), 16 OUT1 (oc)

## XT2
designator X?, comment 8Mhz
Crystal, 32.768 KHz, -40 to 85 degC, 3.2 x 1.5 x 0.9 mm SMD; Value: 4Mhz
footprint XT2 (Footpin for Crystal 2 pin)
footprint XT2N (Crystal 2pin, high 200 mil)
footprint XT2-L (Footpin for Crystal 2 pin)
footprint XT32k
footprint XT2-SMD
footprint XTAL-RU49/4
footprint XT2-32.768KHz-2_V (Hand Drawn, 2-Leads, Body 3.2x1.5mm, Pitch 2.5mm)
pins: 1, 2